# Altium footprint library HTL-part-2021_04.pcblib: 93 footprints (part 5 of 6)
Each footprint in its own frame and in the unit in brackets; x right, y up, seen from the top. Pads: shape width x height; smd on the part's side, far side on the other; paste and mask are expansions set on the pad; w line width, h text height; cw(c..) or ccw(c..) is an arc to the next point about the centre after c.
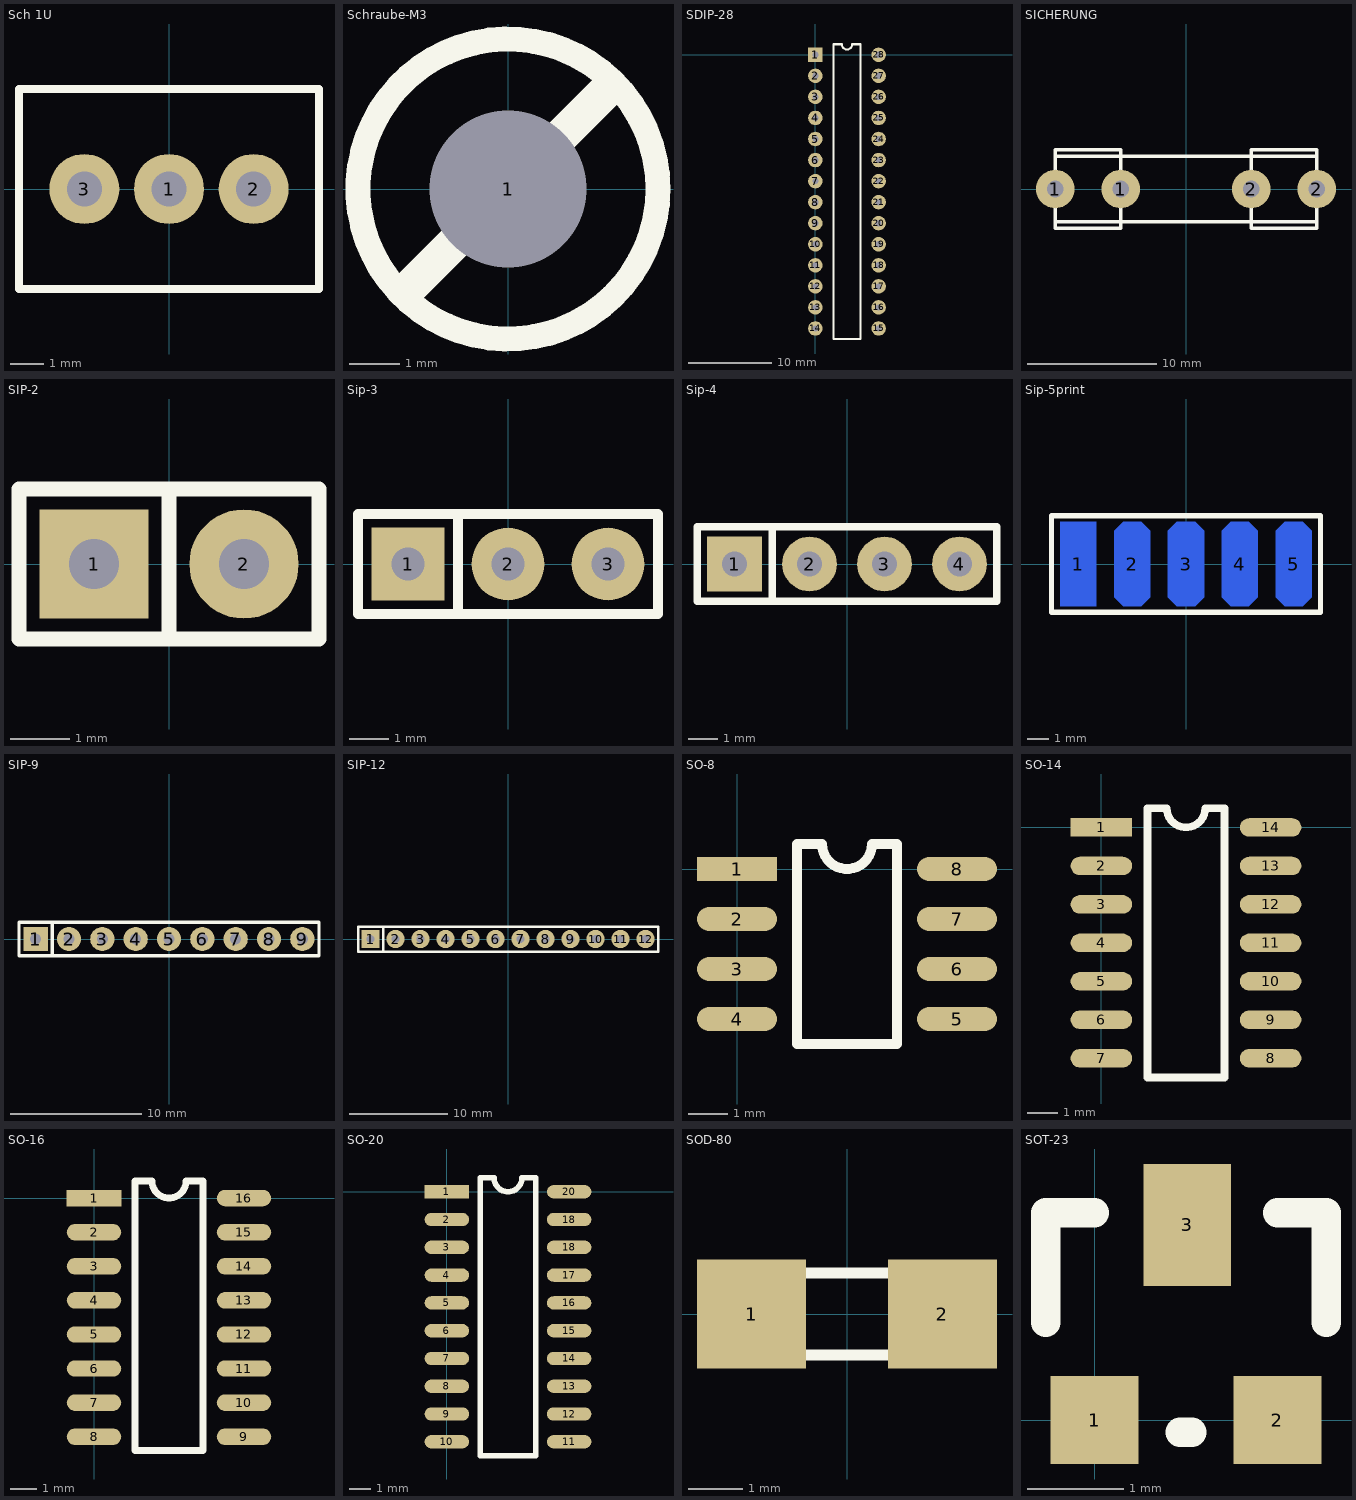
[diagram p4: the footprints below, top view; thin cyan lines are the x and y axes]

## Sch 1U [mm]
pads (3):
  round 2.1 hole 1.05: 1(0,0) 2(2.54,0) 3(-2.54,0)
Top Overlay:
  lines w0.254: -4.5,-3 -4.5,3 4.5,3 4.5,-3 -4.5,-3

## Schraube-M3 [mm] "Befestigungsschraube für Prints"
pads (1):
  round 0.75 hole 3.15 unplated: 1(0,0)
Top Overlay:
  circle w0.5: c0,0 r3
  lines w0.7: -2,-2 2,2

## SDIP-28 [mm]
pads (28):
  rect 1.75x1.75 hole 0.75: 1(0,0)
  round 1.75 hole 0.75: 2(0,-2.54) 3(0,-5.08) 4(0,-7.62) 5(0,-10.16) 6(0,-12.7) 7(0,-15.24) 8(0,-17.78) 9(0,-20.32) 10(0,-22.86) 11(0,-25.4) 12(0,-27.94) 13(0,-30.48) 14(0,-33.02) 15(7.62,-33.02) 16(7.62,-30.48) 17(7.62,-27.94) 18(7.62,-25.4) 19(7.62,-22.86) 20(7.62,-20.32) 21(7.62,-17.78) 22(7.62,-15.24) 23(7.62,-12.7) 24(7.62,-10.16) 25(7.62,-7.62) 26(7.62,-5.08) 27(7.62,-2.54) 28(7.62,0)
Top Overlay:
  lines w0.254: 2.159,-34.29 2.159,1.27 3.175,1.27 ccw(c3.81,1.27) 4.445,1.27 5.461,1.27 5.461,-34.29 2.159,-34.29

## SICHERUNG [mm]
pads (4):
  round 3 hole 1.3: 1(-10.163,0.008) 1(-5.083,0.008) 2(5.077,0.008) 2(10.157,0.008)
Top Overlay:
  lines w0.254: -10.163,-2.532 -10.163,-3.04 -5.083,-3.04 -5.083,-2.532 -5.083,2.548 -5.083,3.056 -10.163,3.056 -10.163,2.548 ; -10.163,-2.532 10.157,-2.532 ; -10.163,-2.532 -10.163,2.548 ; -10.163,2.548 10.157,2.548 ; 10.157,-2.532 10.157,-3.04 5.077,-3.04 5.077,-2.532 5.077,2.548 5.077,3.056 10.157,3.056 10.157,2.548 ; 10.157,-2.532 10.157,2.548

## SIP-2 [mm]
pads (2):
  rect 1.85x1.85 hole 0.85: 1(-1.27,0)
  round 1.85 hole 0.85: 2(1.27,0)
Top Overlay:
  lines w0.254: 0,-1.27 0,1.27 ; -2.54,-1.27 2.54,-1.27 2.54,1.27 -2.54,1.27 -2.54,-1.27

## Sip-3 [mm]
pads (3):
  rect 1.85x1.85 hole 0.85: 1(-2.54,0)
  round 1.85 hole 0.85: 2(0,0) 3(2.54,0)
Top Overlay:
  lines w0.254: -1.27,-1.27 -1.27,1.27 ; -3.81,-1.27 3.81,-1.27 3.81,1.27 -3.81,1.27 -3.81,-1.27

## Sip-4 [mm]
pads (4):
  rect 1.85x1.85 hole 0.85: 1(-3.81,0)
  round 1.85 hole 0.85: 2(-1.27,0) 3(1.27,0) 4(3.81,0)
Top Overlay:
  lines w0.254: -2.54,-1.27 -2.54,1.27 ; -5.08,-1.27 -5.08,1.27 5.08,1.27 5.08,-1.27 -5.08,-1.27

## Sip-5print [mm]
pads (5):
  rect 1.7x4 smd far side: 1(-5.08,0)
  oct 1.7x4 smd far side: 2(-2.54,0) 3(0,0) 4(2.54,0) 5(5.08,0)
Top Overlay:
  lines w0.254: -6.35,-2.286 -6.35,2.286 6.35,2.286 6.35,-2.286 -6.35,-2.286

## SIP-9 [mm]
pads (9):
  rect 1.85x1.85 hole 0.85: 1(-10.16,0)
  round 1.85 hole 0.85: 2(-7.62,0) 3(-5.08,0) 4(-2.54,0) 5(0,0) 6(2.54,0) 7(5.08,0) 8(7.62,0) 9(10.16,0)
Top Overlay:
  lines w0.254: -8.89,-1.27 -8.89,1.27 ; -11.43,-1.27 11.43,-1.27 11.43,1.27 -11.43,1.27 -11.43,-1.27

## SIP-12 [mm]
pads (12):
  rect 1.85x1.85 hole 0.85: 1(-13.97,0)
  round 1.85 hole 0.85: 2(-11.43,0) 3(-8.89,0) 4(-6.35,0) 5(-3.81,0) 6(-1.27,0) 7(1.27,0) 8(3.81,0) 9(6.35,0) 10(8.89,0) 11(11.43,0) 12(13.97,0)
Top Overlay:
  lines w0.254: -12.7,-1.27 -12.7,1.27 ; -15.24,-1.27 15.24,-1.27 15.24,1.27 -15.24,1.27 -15.24,-1.27

## SO-8 [mil]
pads (8):
  rect 80x24 smd: 1(0,0)
  oval 80x24 smd: 2(0,-50) 3(0,-100) 4(0,-150) 5(220,-150) 6(220,-100) 7(220,-50) 8(220,0)
Top Overlay:
  lines w10: 60,-175 60,25 85,25 ccw(c110,25) 135,25 160,25 160,-175 60,-175

## SO-14 [mil]
pads (14):
  rect 80x24 smd: 1(0,0)
  oval 80x24 smd: 2(0,-50) 3(0,-100) 4(0,-150) 5(0,-200) 6(0,-250) 7(0,-300) 8(220,-300) 9(220,-250) 10(220,-200) 11(220,-150) 12(220,-100) 13(220,-50) 14(220,0)
Top Overlay:
  lines w10: 60,-325 160,-325 160,25 135,25 cw(c110,25) 85,25 60,25 60,-325

## SO-16 [mil]
pads (16):
  rect 80x24 smd: 1(0,0)
  oval 80x24 smd: 2(0,-50) 3(0,-100) 4(0,-150) 5(0,-200) 6(0,-250) 7(0,-300) 8(0,-350) 9(220,-350) 10(220,-300) 11(220,-250) 12(220,-200) 13(220,-150) 14(220,-100) 15(220,-50) 16(220,0)
Top Overlay:
  lines w10: 60,-370 60,25 85,25 ccw(c110,25) 135,25 160,25 160,-370 60,-370

## SO-20 [mil]
pads (20):
  rect 80x24 smd: 1(0,0)
  oval 80x24 smd: 2(0,-50) 3(0,-100) 4(0,-150) 5(0,-200) 6(0,-250) 7(0,-300) 8(0,-350) 9(0,-400) 10(0,-450) 11(220,-450) 12(220,-400) 13(220,-350) 14(220,-300) 15(220,-250) 16(220,-200) 17(220,-150) 18(220,-100) 18(220,-50) 20(220,0)
Top Overlay:
  lines w10: 60,-475 60,25 85,25 ccw(c110,25) 135,25 160,25 160,-475 60,-475

## SOD-80 [mm]
height 1.5
pads (2):
  rect 2x2 smd: 1(-1.75,0) 2(1.75,0)
Top Overlay:
  lines w0.2: 1,-0.75 1,0.75 ; -1.75,-0.75 -1.75,0.75 1.75,0.75 1.75,-0.75 -1.75,-0.75

## SOT-23 [mil]
pads (3):
  rect 36x36 smd: 1(0,0) 2(75,0)
  rect 36x50 smd: 3(38,80)
Top Overlay:
  lines w12: -20,40 -20,85 0,85 ; 35,-5 40,-5 ; 75,85 95,85 95,40